# EAGLE library part UEP (library dc-dc-converter)
Datel UEP Series DC-DC, Single Output
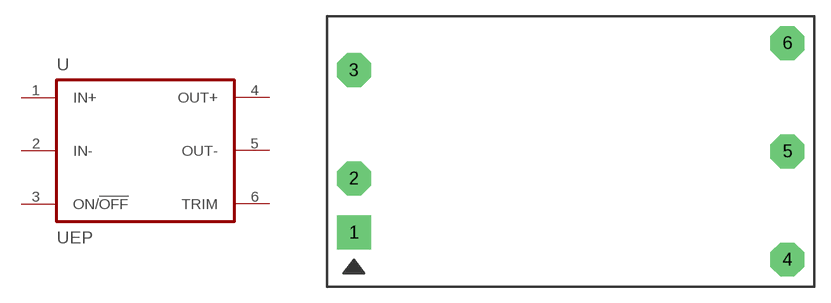
[diagram p5: symbol with the pads of UEP; footprint UEP]

Designator prefix U

## UEP  [UEP]
1  IN+  pas
2  IN-  pas
3  ON/!OFF!  in
4  OUT+  pas
5  OUT-  pas
6  TRIM  pas

## Footprint UEP (pad centres in mm)
DC-DC CONVERTER
drill 1.422 pad 3.175 square: 1 -20.32,-7.62
drill 1.422 pad 3.175 octagon: 2 -20.32,-2.54; 3 -20.32,7.62; 4 20.32,-10.16; 5 20.32,0; 6 20.32,10.16